# EAGLE library part 50208-008 (library con-aces-50208-series)
ACES CONNECTORS 50208 SERIES ACES Connecors 50208 <https://www.acesconn.com/tw/series/50208-xxxxx-xxx/1224>
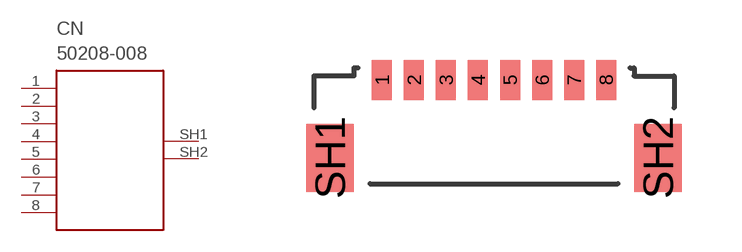
[diagram p4: symbol with the pads of 50208-008; footprint 50208-008]

Designator prefix CN

## 50208-008  [50208-008]
1  1
2  2
3  3
4  4
5  5
6  6
7  7
8  8
SH1  SH1
SH2  SH2

## Footprint 50208-008 (pad centres in mm)
smd 0.5 x 1: 1 -2.8,0; 2 -2,0; 3 -1.2,0; 4 -0.4,0; 5 0.4,0; 6 1.2,0; 7 2,0; 8 2.8,0
smd 1.2 x 1.7: SH1 -4.1,-1.95; SH2 4.1,-1.95